# EAGLE library part 2X6_SMD (library myFab)
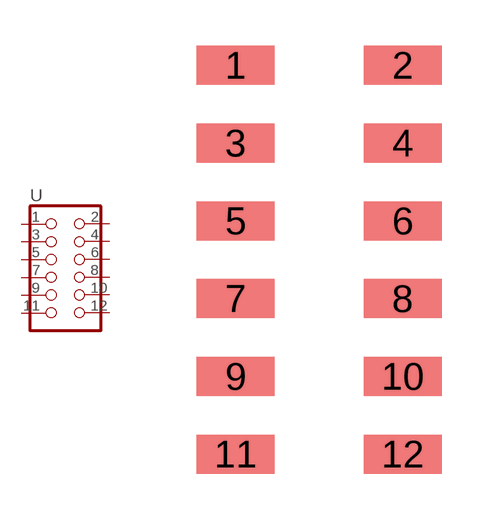
[diagram p14: symbol with the pads of 2X6_SMD; footprint 2X6_SMD]

Designator prefix -

## 2X6_SMD  [2X6_SMD]
1  1  pas
2  2  pas
3  3  pas
4  4  pas
5  5  pas
6  6  pas
7  7  pas
8  8  pas
9  9  pas
10  10  pas
11  11  pas
12  12  pas

## Footprint 2X6_SMD (pad centres in mm)
smd 2.54 x 1.27: 1 -2.731,1.968; 2 2.729,1.968; 3 -2.731,-0.572; 4 2.729,-0.572; 5 -2.731,-3.111; 6 2.729,-3.111; 7 -2.731,-5.652; 8 2.729,-5.652; 9 -2.731,-8.191; 10 2.729,-8.191; 11 -2.731,-10.732; 12 2.729,-10.732